# EAGLE library part TPS2110 (library ads4)
TI TPS2110/2111/2112/2113/2114/2115 Two-Input One-Output Power Mux
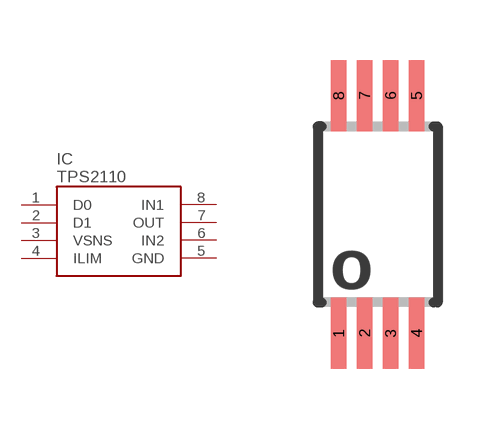
[diagram p67: symbol with the pads of TSSOP8; footprint TSSOP8]

Designator prefix IC

## TPS2110  [TSSOP8]
1  D0  pas
2  D1  pas
3  VSNS  pas
4  ILIM  pas
5  GND  pas
6  IN2  pas
7  OUT  pas
8  IN1  pas

## Footprint TSSOP8 (pad centres in mm)
8-pin TSSOP 4.4mm wide Also JEDEC MO-153 Pad layout as suggested by Fairchild package number MTC14
smd 0.395 x 1.78: 1 -0.975,-2.97; 2 -0.325,-2.97; 3 0.325,-2.97; 4 0.975,-2.97; 5 0.975,2.97; 6 0.325,2.97; 7 -0.325,2.97; 8 -0.975,2.97